# Altium schematic symbol library ST25DV04K.SchLib: 2 symbols
Pins are listed as number, name and electrical type; pins without a type are passive.

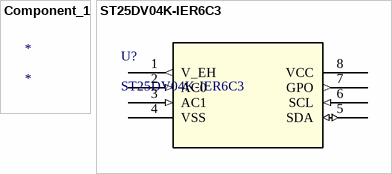
[diagram p0: symbols Component_1 to ST25DV04K-IER6C3]

## Component_1
designator *

## ST25DV04K-IER6C3
designator U?
No Description Available; Vendor: STMicroelectronics; Built_By: EMA_Jessica; SourceLibrary: STMicro_2020-01-02; Manufacturer_Part_Number: ST25DV04K-IER6C3; Copyright: Copyright (C) 2018 Accelerated Designs. All rights reserved; RefDes: RefDes; Type: DEV
footprint UFDFPN8_STM
pins: 1 V_EH (out), 2 AC0 (in), 3 AC1 (in), 4 VSS (power), 5 SDA (io), 6 SCL (in), 7 GPO (out), 8 VCC (power)